# Altium schematic symbol library 499lib.SchLib: 29 symbols
Pins are listed as number, name and electrical type; pins without a type are passive.

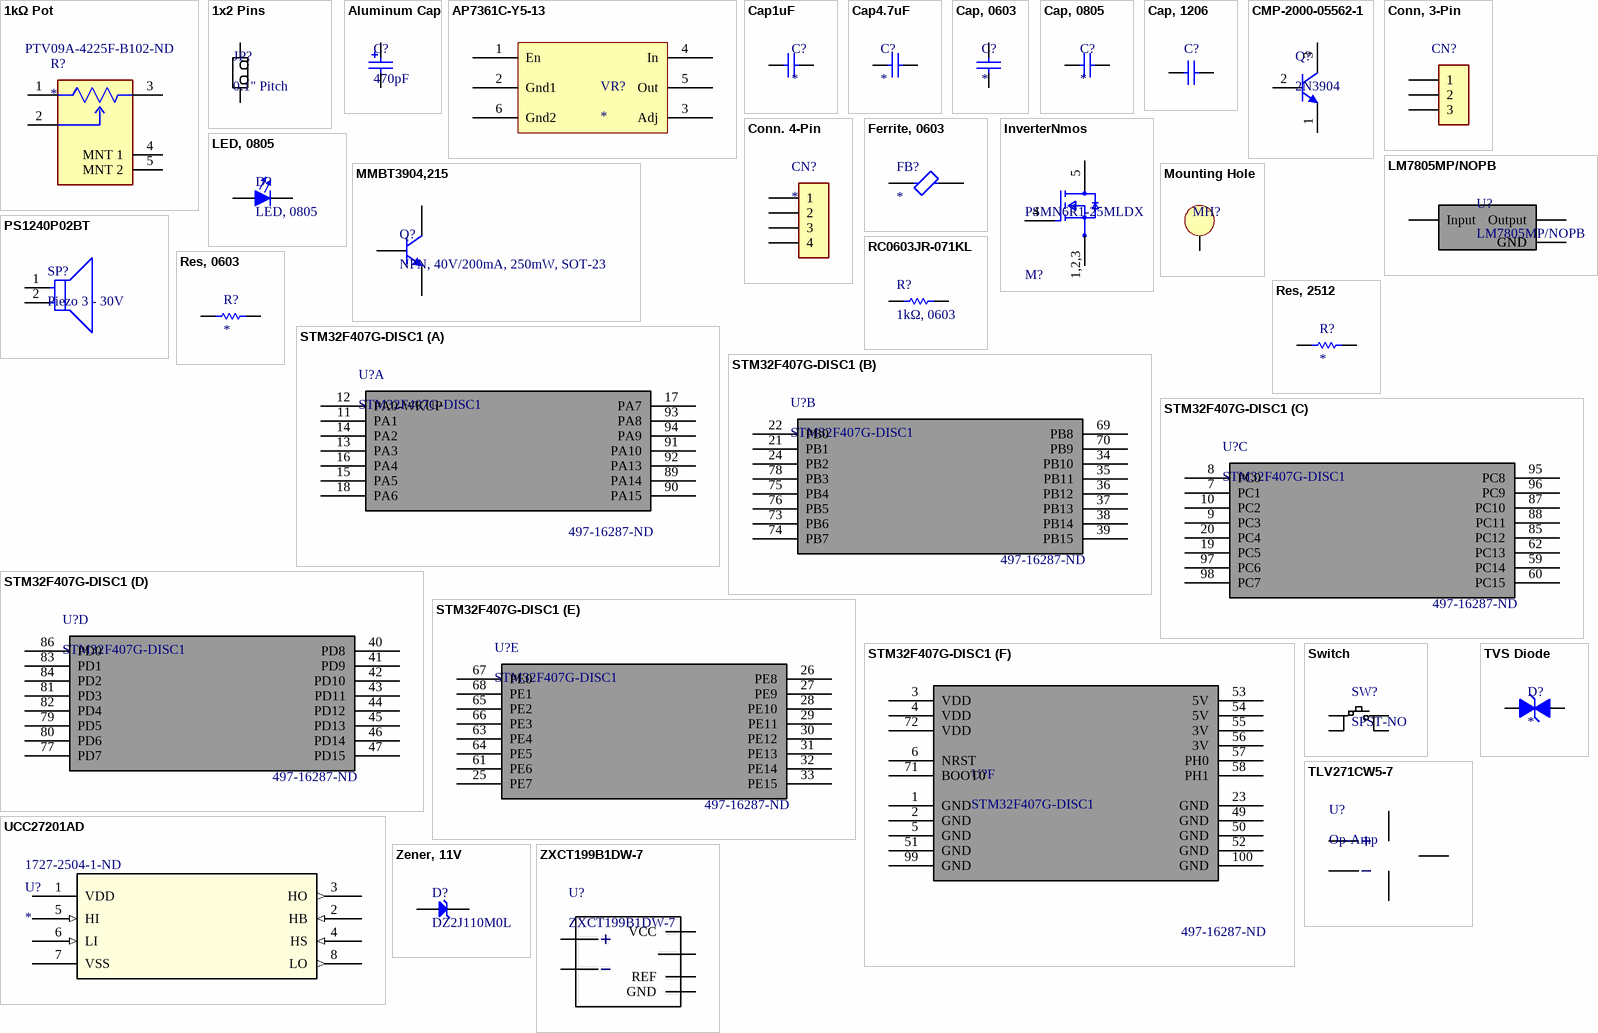
[diagram p0: symbols 1kΩ Pot to ZXCT199B1DW-7]

## 1kΩ Pot
designator R?  Supplier Part Number 1: PTV09A-4225F-B102-ND
Supplier 1: Digi-Key
footprint 1k Pot
pins: 1, 2, 3, 4 MNT 1, 5 MNT 2

## 1x2 Pins
designator JP?, comment 0.1" Pitch
Supplier 1: Digi-Key; Supplier Part Number 1: 952-3073-ND
footprint 1x2, Header
pins: 1, 2

## Aluminum Cap
designator C?, comment 470pF
footprint Alum Capacitor
footprint BootstrapCap
pins: 1, 2

## AP7361C-Y5-13
designator VR?
LDO Regulator Pos 0.8V to 5V 1A 6-Pin(5+Tab) SOT-89 T/R; Manufacturer: Diodes; Manufacturer Part Number: AP7361C-Y5-13; Dropout Voltage: 360mV; Number of Regulators: 1; Min Current Limit: 1.1A; Output Type: Adjustable; Output Configuration: Positive; Max Supply Voltage: 6V; Min Output Voltage: 800mV; Power Supply Rejection Ratio (PSRR): 55dB; Quiescent Current: 80uA; Supplier: Digi-Key; Supplier Part Number: AP7361C-Y5-13DICT-ND; RoHS: Yes; Category: Voltage Regulators - Linear; Stock: 81174; Mounting Technology: Surface Mount; Case/Package: SOT-89-5; Min Operating Temperature: -40°C; Max Operating Temperature: 85°C; Packaging: Cut Tape; Output Voltage: 5V; Output Current: 1A; Series: -; Max Output Voltage: 5V; RoHS Compliant: Yes; ComponentLink1URL: http://www.mouser.com/ds/2/115/AP7361C-775034.pdf?src-supplier=Mouser; ComponentLink1Description: http://www.mouser.com/ds/2/115/AP7361C-775034.pdf?src-supplier=Mouser; ComponentLink2URL: https://www.diodes.com/assets/Datasheets/AP7361C.pdf?src-supplier=Digi-Key; ComponentLink2Description: https://www.diodes.com/assets/Datasheets/AP7361C.pdf?src-supplier=Digi-Key
footprint AP7361CY513
pins: 1 En, 2 Gnd1, 3 Adj, 4 In, 5 Out, 6 Gnd2

## Cap1uF
designator C?
pins: 1, 2

## Cap4.7uF
designator C?
pins: 1, 2

## Cap, 0603
designator C?
footprint CAP, 0603 (Chip Capacitor, Body 1.6x0.8mm (0603"), IPC Medium Density)
pins: 1 Anode, 2 Cathode

## Cap, 0805
designator C?
footprint Cap, 0805
pins: 1 Anode, 2 Cathode

## Cap, 1206
designator C?  (value not drawn)
footprint Cap, 1206
pins: 1 Anode, 2 Cathode

## CMP-2000-05562-1
designator Q?, comment 2N3904
General Purpose Transistor, NPN Silicon, 200 mA, 60 V, -55 to 150 degC, 3-Pin TO-92, RoHS, Bulk; Manufacturer: ONSemiconductor; Emitter- Base Voltage VEBO: 6V; Maximum Power Dissipation: 625mW; Maximum DC Collector Current: 0.2A; Collector- Emitter Voltage VCEO Max: 40V; Collector- Base Voltage VCBO: 60V; DC Collector/Base Gain hfe Min: 60; Configuration: Single; Collector-Emitter Saturation Voltage: 0.3V; Gain Bandwidth Product fT: 270MHz; Mounting Style: ThroughHole; Package / Case: TO-92-3(TO-226); Mounting Technology: ThroughHole; Minimum Operating Temperature: -65C; Datasheet Version: Rev. 8, 08/2012; Product Category: BipolarTransistors-BJT; Factory Pack Quantity: 5000; Transistor Polarity: NPN; Package Description: 3-Pin Transistor Outline, Body 4.825 x 3.685 mm, Pitch 1.27 mm; RoHS: Details; Datasheet URL: https://datasheet.ciiva.com/4725/2n3903-d-285841-4725808.pdf; Packaging: Bulk; Maximum Operating Temperature: +150C; Package Reference: TO-92-3-29-11; Brand: ONSemiconductor; Manufacturer URL: http://www.onsemi.com/
footprint MMBT3904,215
pins: 1 E, 2 B, 3 C

## Conn, 3-Pin
designator CN?  (value not drawn)
Supplier 1: Digi-Key; Supplier Part Number 1: A98334-ND
footprint Conn, 3-Pin
pins: 1, 2, 3

## Conn. 4-Pin
designator CN?
Supplier 1: Digi-Key; Supplier Part Number 1: 609-3821-ND
footprint Input Connector
pins: 1, 2, 3, 4

## Ferrite, 0603
designator FB?
Supplier 1: Digi-Key; Supplier Part Number 1: 732-6703-1-ND
footprint Ferrite, 0603
pins: 1, 2

## InverterNmos
designator M?, comment PSMN6R1-25MLDX
PSMN6R1-25MLD/MLFPAK/REEL 7 Q
footprint FP-SOT1210-MFG
pins: 1,2,3 S, 4 G, 5 D

## LED, 0805
designator D?
footprint LED, 0805
pins: 1 Cathode, 2 Anode

## LM7805MP/NOPB
designator U?
Supplier 1: Digi-Key; Supplier Part Number 1: 497-1572-1-ND
footprint LM7805MP/NOPB
pins: 1 Input (power), 2 GND (power), 3 Output (power), 4 GND (power)

## MMBT3904,215
designator Q?, comment NPN, 40V/200mA, 250mW, SOT-23
footprint MMBT3904,215
pins: 1 B, 2 E, 3 C

## Mounting Hole
designator MH?  (value not drawn)
footprint Mounting Hole
pins: 1

## PS1240P02BT
designator SP?, comment Piezo 3 - 30V
Audio Buzzer Piezo 30Vo-p 3Vo-p 70dBA Through Hole Pin Ammo; Manufacturer: TDK; Manufacturer Part Number: PS1240P02BT; Frequency: 4kHz; Operating Supply Voltage: 3V; Supplier: Arrow Electronics; Supplier Part Number: PS1240P02BT; RoHS: Yes; Category: Audio Products; Stock: 8080; Pricing: 1=0.3736, 10=0.3379, 25=0.3346, 100=0.3094, 250=0.309, 500=0.2875, 1000=0.2797, 3000=0.266, 6000=0.26 (USD); Mounting Technology: Through Hole; Pins: 2; Min Operating Temperature: -10°C; Max Operating Temperature: 70°C; Package Quantity: 2500; Packaging: Tape and Reel; Termination: PC Pins; Voltage Rating (DC): 3V; Series: PS; Diameter: 12.2mm; Height: 6.5mm; Lead Free: Lead Free; RoHS Compliant: Yes; ComponentLink1URL: https://datasheet.ciiva.com/0/ef532-ps-112.pdf?src-supplier=Digi-Key; ComponentLink1Description: https://datasheet.ciiva.com/0/ef532-ps-112.pdf?src-supplier=Digi-Key; ComponentLink2URL: https://datasheet.ciiva.com/0/ef532-ps-111.pdf?src-supplier=Digi-Key; ComponentLink2Description: https://datasheet.ciiva.com/0/ef532-ps-111.pdf?src-supplier=Digi-Key; ComponentLink3URL: https://datasheet.ciiva.com/3306/ef532-ps-3306958.pdf?src-supplier=Avnet; ComponentLink3Description: https://datasheet.ciiva.com/3306/ef532-ps-3306958.pdf?src-supplier=Avnet; ComponentLink4URL: https://datasheet.ciiva.com/16225/ef532-ps-16225062.pdf?src-supplier=Onlinecomponents.com; ComponentLink4Description: https://datasheet.ciiva.com/16225/ef532-ps-16225062.pdf?src-supplier=Onlinecomponents.com; Supplier 1: Digi-Key; Supplier Part Number 1: 445-2525-1-ND
footprint FP-PKM13EPYH4000-A0-MFG
pins: 1, 2

## RC0603JR-071KL
designator R?, comment 1kΩ, 0603
Chip Resistor, 1 KOhm, +/- 5%, 0.063 W, -55 to 155 degC, 0603 (1608 Metric), RoHS, Tape and Reel; Manufacturer: Yageo; Resistor Case Style: 0603[1608Metric]; Resistor Element Type: ThickFilm; Product Range: RCSeries; Resistance: 1kohm; SVHC: ToBeAdvised; Voltage Rating: 50V; Temperature Coefficient: ±100ppm/degC; Power Rating: 100mW; Packaging: CutTape; Manufacturer URL: http://www.yageo.com/; Resistance Tolerance: ±5%; Datasheet Version: Rev. 4, 04/2009; MSL: MSL1-Unlimited; Package Description: 2-Pin Surface Mount Device, Body 1.6 x 0.8 mm; Automotive Qualification Standard: -; Package Reference: 603; Datasheet URL: https://datasheet.ciiva.com/2452/pyu-rc0603-51-rohs-l-4-2452848.pdf
footprint Chip, 0603 (Chip Resistor, 2-Leads, Body 1.60x0.80mm, IPC Medium Density)
pins: 1, 2

## Res, 0603
designator R?
footprint Res, 0603 (Chip Resistor, 2-Leads, Body 1.60x0.80mm, IPC Medium Density)
pins: 1, 2

## Res, 2512
designator R?
footprint Res, 2512
pins: 1, 2

## STM32F407G-DISC1
designator U?  Supplier Part Number 1: 497-16287-ND
Supplier 1: Digi-Key
footprint STM32F4
part A pins: 11 PA1 "Free IO", 12 PA0-WKUP "User Push Button, Free IO", 13 PA3 "Free IO", 14 PA2 "Free IO", 15 PA5 "Motion Sensor", 16 PA4 "Audio DAC", 17 PA7 "Motion Sensor", 18 PA6 "Motion Sensor", 89 PA14 "SWCLK", 90 PA15, 91 PA10 "USB ID", 92 PA13 "SWDIO", 93 PA8 "Free IO", 94 PA9 "Green LED, USB VBUS"
part B pins: 21 PB1, 22 PB0, 24 PB2, 34 PB10, 35 PB11, 36 PB12, 37 PB13, 38 PB14, 39 PB15, 69 PB8, 70 PB9, 73 PB6, 74 PB7, 75 PB4, 76 PB5, 78 PB3
part C pins: 7 PC1, 8 PC0, 9 PC3, 10 PC2, 19 PC5, 20 PC4, 59 PC14, 60 PC15, 62 PC13, 85 PC12, 87 PC10, 88 PC11, 95 PC8, 96 PC9, 97 PC6, 98 PC7
part D pins: 40 PD8, 41 PD9, 42 PD10, 43 PD11, 44 PD12, 45 PD13, 46 PD14, 47 PD15, 77 PD7, 79 PD5, 80 PD6, 81 PD3, 82 PD4, 83 PD1, 84 PD2, 86 PD0
part E pins: 25 PE7, 26 PE8, 27 PE9, 28 PE10, 29 PE11, 30 PE12, 31 PE13, 32 PE14, 33 PE15, 61 PE6, 63 PE4, 64 PE5, 65 PE2, 66 PE3, 67 PE0, 68 PE1
part F pins: 1 GND, 2 GND, 3 VDD, 4 VDD, 5 GND, 6 NRST "Reset Button", 23 GND, 49 GND, 50 GND, 51 GND, 52 GND, 53 5V, 54 5V, 55 3V, 56 3V, 57 PH0, 58 PH1, 71 BOOT0, 72 VDD, 99 GND, 100 GND

## Switch
designator SW?, comment SPST-NO
SPST-NO Switch
footprint 4-SPST-NO
pins: 1, 2, 3, 4

## TLV271CW5-7
designator U?, comment Op-Amp
For back-emf measurement; Supplier 1: Digi-Key; Supplier Part Number 1: TLV271CW5-7DICT-ND
footprint SOT-753
pins: 1 Out, 2 Vcc-, 3 V+, 4 V-, 5 Vcc +

## TVS Diode
designator D?
Supplier 1: Digi-Key; Supplier Part Number 1: SMBJ24CA-E3/52GICT-ND
footprint TVS Diode
pins: 1 Anode, 2 Cathode

## UCC27201AD
designator U?  Supplier Part Number 1: 1727-2504-1-ND
Half bridge Mosfet driver; Mfr_Name: Texas Instruments; RefDes: RefDes; Type: Type; Supplier 1: Digi-Key
footprint D8
pins: 1 VDD (power), 2 HB (in), 3 HO (out), 4 HS (in), 5 HI (in), 6 LI (in), 7 VSS (power), 8 LO (out)

## Zener, 11V
designator D?, comment DZ2J110M0L
footprint Zener, 11V
pins: A Anode, K Cathode

## ZXCT199B1DW-7
designator U?
for half-bridge Current monitor; Supplier 1: DigiKey; Supplier Part Number 1: 31-ZXCT199B1DW-7CT-ND
footprint SOT-363
pins: 1 REF, 2 GND, 3 VCC, 4 V+, 5 V-, 6 Out